# EAGLE library part EG2210-SW (library piboy_new)
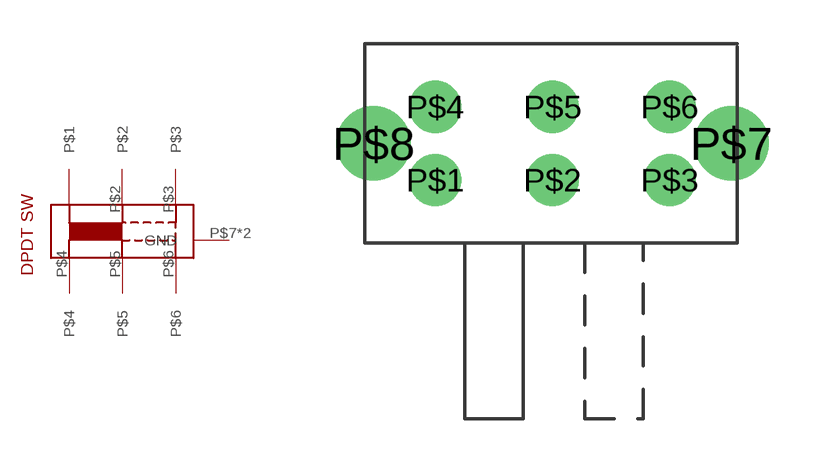
[diagram p5: symbol with the pads of EG2210-SW; footprint EG2210-SW]

Designator prefix -

## EG2210-SW  [EG2210-SW]
P$1  P$1
P$2  P$2
P$3  P$3
P$4  P$4
P$5  P$5
P$6  P$6
P$7  GND  pwr
P$8  GND  pwr

## Footprint EG2210-SW (pad centres in mm)
drill 0.8 pad 1.778: P$1 -4,-1.25; P$2 0,-1.25; P$3 4,-1.25; P$4 -4,1.25; P$5 0,1.25; P$6 4,1.25
drill 1.3 pad 2.54: P$7 6.1,0; P$8 -6.1,0